# Altium footprint library footprintsGPSrev1.PcbLib: 7 footprints
Each footprint in its own frame and in the unit in brackets; x right, y up, seen from the top. Pads: shape width x height; smd on the part's side, far side on the other; paste and mask are expansions set on the pad; w line width, h text height; cw(c..) or ccw(c..) is an arc to the next point about the centre after c.
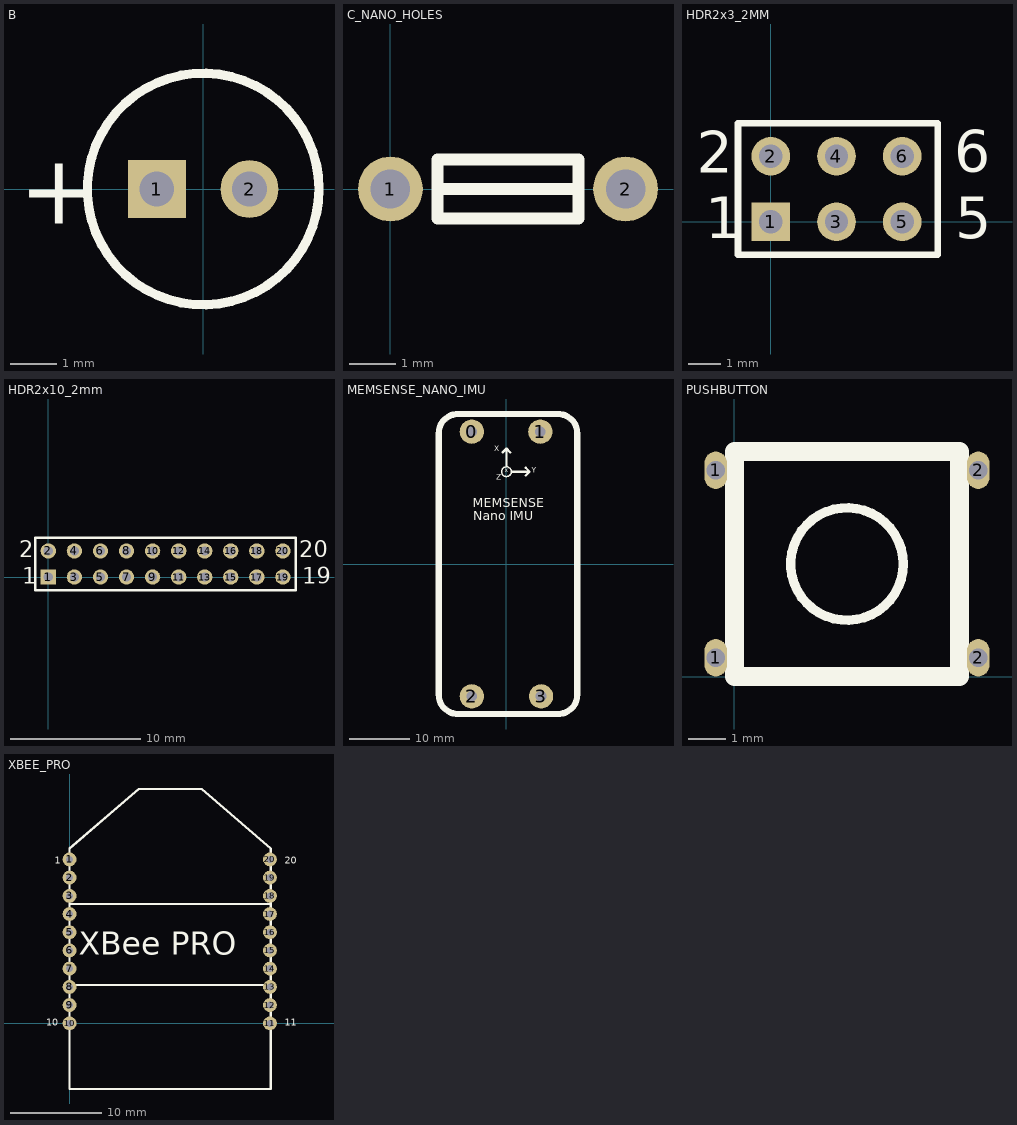
[diagram p0: the footprints below, top view; thin cyan lines are the x and y axes]

## B [mm] "Capacitor, Electrolytic, Radial; Body 5 x 6.8 mm (Dia.xH typ); Pin Spacing 2 mm (typ)"
pads (2):
  rect 1.25x1.25 hole 0.75: 1(-1,0)
  round 1.25 hole 0.75: 2(1,0)
Top Overlay:
  circle w0.2: c0,0 r2.5
  text "+" at -3.975,-0.75 h1.5

## C_NANO_HOLES [mm] "C_NANO com furos maiores"
pads (2):
  round 1.4 hole 0.85: 1(0,0) 2(5.08,0)
Top Overlay:
  lines w0.254: 1.016,0 3.302,0 ; 1.778,0 4.064,0 ; 4.064,0 4.064,0.635 1.016,0.635 1.016,-0.635 4.064,-0.635 4.064,0

## HDR2x3_2MM [mm] "Header 2x3 (2mm pitch)"
pads (6):
  rect 1.18x1.18 hole 0.71: 1(0,0)
  round 1.18 hole 0.71: 2(0,2) 3(2,0) 4(2,2) 5(4,0) 6(4,2)
Top Overlay:
  lines w0.2: -1,-1 -1,3 1.445,3 5.08,3 5.08,-1 0.905,-1 -1,-1
  text "1" at -2,-0.5 h1.27
  text "2" at -2.25,1.5 h1.27
  text "6" at 5.588,1.524 h1.27
  text "5" at 5.62,-0.5 h1.27

## HDR2x10_2mm [mm]
pads (20):
  rect 1.18x1.18 hole 0.71: 1(0,0)
  round 1.18 hole 0.71: 2(0,2) 3(2,0) 4(2,2) 5(4,0) 6(4,2) 7(6,0) 8(6,2) 9(8,0) 10(8,2) 11(10,0) 12(10,2) 13(12,0) 14(12,2) 15(14,0) 16(14,2) 17(16,0) 18(16,2) 19(18,0) 20(18,2)
Top Overlay:
  lines w0.2: -1,-1 0.905,-1 19,-1 19,3 1.445,3 -1,3 -1,-1
  text "20" at 19.25,1.5 h1.27
  text "19" at 19.5,-0.5 h1.27
  text "1" at -2,-0.5 h1.27
  text "2" at -2.25,1.5 h1.27

## MEMSENSE_NANO_IMU [mil]
pads (4):
  round 157.48 hole 70: 0(-225,860) 1(220,860) 2(-225,-860) 3(225,-860)
Top Overlay:
  circle w10: c0,600 r31.62
  lines w15: -25,725 0,750 ; 0,635 0,750 ; 25,725 0,750 ; 35,600 150,600 ; 125,575 150,600 ; 125,625 150,600
  lines w40: -440,-850 ccw(c-315,-850) -315,-975 335,-975 ccw(c335,-850) 460,-850 460,850 ccw(c335,850) 335,975 -315,975 ccw(c-315,850) -440,850 -440,-850
  text "Z" at -65,535 h60
  text "Y" at 165,580 h60
  text "X" at -80,720 h60
  text "x" at -10,588 h50
  text "MEMSENSE" at -220,370 h60
  text "Nano IMU" at -214.93,285 h60

## PUSHBUTTON [mm]
pads (4):
  oval 0.6x1 hole 0.5: 1(-0.5,0.5) 1(-0.5,5.5) 2(6.5,0.5) 2(6.5,5.5)
Top Overlay:
  circle w0.254: c3,3 r1.5
  lines w0.5: -0.5,0.5 0,0.5 ; -0.5,5.5 0,5.5 ; 6,0.5 6.5,0.5 ; 6,5.5 6.5,5.5 ; 0,0 6,0 6,6 0,6 0,0

## XBEE_PRO [mil]
pads (20):
  round 60 hole 30: 1(0,708.66) 2(0,629.92) 3(0,551.18) 4(0,472.44) 5(0,393.7) 6(0,314.96) 7(0,236.22) 8(0,157.48) 9(0,78.74) 10(0,0) 11(866.14,0) 12(866.14,78.74) 13(866.14,157.48) 14(866.14,236.22) 15(866.14,314.96) 16(866.14,393.7) 17(866.14,472.44) 18(866.14,551.18) 19(866.14,629.92) 20(866.14,708.66)
Top Overlay:
  lines w10: 0,166 870,166 ; 0,516 870,516 ; 866.14,-284 0,-284 0,746 0,756 299,1013 571,1013 870,756 870,-284
  text "11" at 930,-10 h30
  text "20" at 930,690 h30
  text "10" at -100,-10 h30
  text "1" at -65.01,690 h30
  text "XBee PRO" at 40,296 h100